# Altium footprint library PcbLib1.PcbLib: 21 footprints (part 1 of 2)
Each footprint in its own frame and in the unit in brackets; x right, y up, seen from the top. Pads: shape width x height; smd on the part's side, far side on the other; paste and mask are expansions set on the pad; w line width, h text height; cw(c..) or ccw(c..) is an arc to the next point about the centre after c.
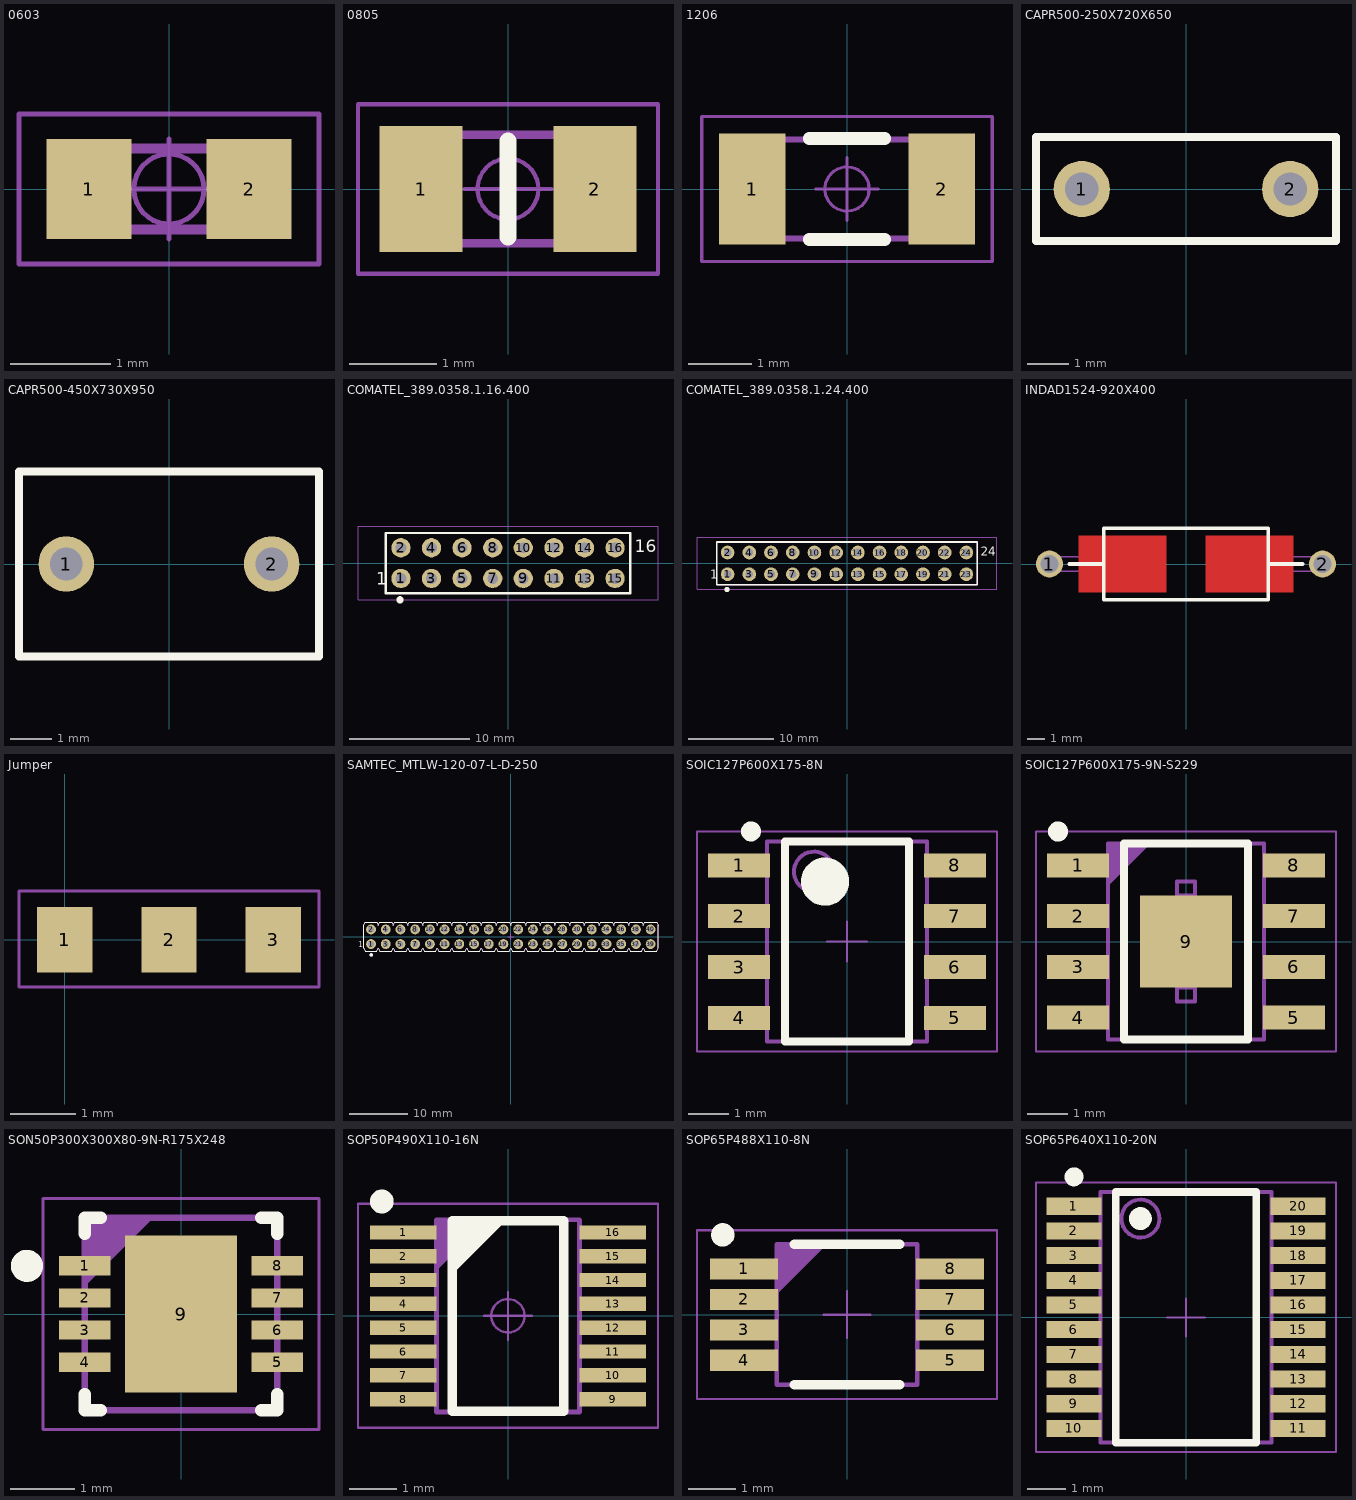
[diagram p0: the footprints below, top view; thin cyan lines are the x and y axes]

## 0603 [mm] "Chip Resistor, EIA 0603, Metric 1608, Body 1.6x0.8mm, IPC Medium Density"
height 0.6
pads (2):
  rect 0.85x1 smd: 1(-0.8,0) 2(0.8,0)
Mechanical 14:
  lines w0.1: -0.8,-0.405 0.8,-0.405 0.8,0.405 -0.8,0.405 -0.8,-0.405
Mechanical 15:
  circle w0.05: c0,0 r0.35
  lines w0.05: -0.5,0 0.5,0 ; 0,-0.5 0,0.5 ; -1.5,-0.75 1.5,-0.75 1.5,0.75 -1.5,0.75 -1.5,-0.75
3D body "RESC1608X60N.stp": height 0.6, standoff 0, extent -0.875,-0.475 0.875,0.475

## 0805 [mm] "Chip Resistor, EIA 0805, Metric 2012, Body 2.0x1.25mm, IPC Medium Density"
height 0.5
pads (2):
  rect 0.95x1.45 smd: 1(-1,0) 2(1,0)
Top Overlay:
  lines w0.2: 0,-0.55 0,0.55
Mechanical 14:
  lines w0.1: -1.025,-0.625 1.025,-0.625 1.025,0.625 -1.025,0.625 -1.025,-0.625
Mechanical 15:
  circle w0.05: c0,0 r0.35
  lines w0.05: -0.5,0 0.5,0 ; 0,-0.5 0,0.5 ; -1.725,-0.975 1.725,-0.975 1.725,0.975 -1.725,0.975 -1.725,-0.975
3D body "RESC2012X50N.stp": height 0.5, standoff 0, extent -1.1,-0.675 1.1,0.675

## 1206 [mm] "Chip Resistor, EIA 1206, Metric 3216, Body 3.2x1.6mm, IPC Medium Density"
height 0.5
pads (2):
  rect 1.05x1.75 smd: 1(-1.5,0) 2(1.5,0)
Top Overlay:
  lines w0.2: -0.6,-0.8 0.6,-0.8 ; -0.6,0.8 0.6,0.8
Mechanical 14:
  lines w0.1: -1.6,-0.785 -1.6,0.785 1.6,0.785 1.6,-0.785 -1.6,-0.785
Mechanical 15:
  circle w0.05: c0,0 r0.35
  lines w0.05: -0.5,0 0.5,0 ; 0,-0.5 0,0.5 ; -2.3,-1.15 -2.3,1.15 2.3,1.15 2.3,-1.15 -2.3,-1.15
3D body "RESC3216X50N.stp": height 0.51, standoff 0, extent -1.675,-0.875 1.675,0.875

## CAPR500-250X720X650 [mm] "Capacitor Radial, Pin spacing 5.0mm - Body With 2.5mm X Body Length 7.2mm X Body Height 6.5mm"
height 6.5
pads (2):
  round 1.35 hole 0.8: 1(-2.5,0) 2(2.5,0)
Top Overlay:
  lines w0.2: -3.6,-1.25 -3.6,1.25 3.6,1.25 3.6,-1.25 -3.6,-1.25
Mechanical 13:
  lines w0.1: -3.6,-1.25 3.6,-1.25 3.6,1.25 -3.6,1.25 -3.6,-1.25
Mechanical 14:
  lines w0.1: -3.6,-1.25 -3.6,1.25 3.6,1.25 3.6,-1.25 -3.6,-1.25
3D body "CAPR500-250X720X650.stp": height 6.5, standoff -3.8, extent -3.599,-1.249 3.601,1.251

## CAPR500-450X730X950 [mm] "Capacitor Radial, Pin spacing 5.0mm - Body With 4.5mm X Body Length 7.3mm X Body Height 9.5mm"
height 9.5
pads (2):
  round 1.35 hole 0.8: 1(-2.5,0) 2(2.5,0)
Top Overlay:
  lines w0.2: -3.65,-2.25 -3.65,2.25 3.65,2.25 3.65,-2.25 ; -3.6,-2.25 3.6,-2.25
Mechanical 13:
  lines w0.1: -3.65,-2.25 3.65,-2.25 3.65,2.25 -3.65,2.25 -3.65,-2.25
Mechanical 14:
  lines w0.1: -3.65,-2.25 -3.65,2.25 3.65,2.25 3.65,-2.25 -3.65,-2.25
3D body "CAPR500-450X730X950.stp": height 9.5, standoff -3.8, extent -3.649,-2.249 3.651,2.251

## COMATEL_389.0358.1.16.400 [mm] "16 Contacts - Pitch 2.54mm - Dual Row Straight Strip Header - Insulator 1.7mm"
height 8
pads (16):
  round 1.6 hole 0.9: 1(-8.89,-1.27) 2(-8.89,1.27) 3(-6.35,-1.27) 4(-6.35,1.27) 5(-3.81,-1.27) 6(-3.81,1.27) 7(-1.27,-1.27) 8(-1.27,1.27) 9(1.27,-1.27) 10(1.27,1.27) 11(3.81,-1.27) 12(3.81,1.27) 13(6.35,-1.27) 14(6.35,1.27) 15(8.89,-1.27) 16(8.89,1.27)
Top Overlay:
  circle w0.3: c-8.963,-3.048 r0.15
  lines w0.2: -10.16,-2.5 10.16,-2.5 10.16,2.5 -10.16,2.5 -10.16,-2.5
  text "1" at -10.922,-1.778 h1.02
  text "16" at 10.541,0.889 h1.02
Mechanical 8:
  lines w0.1: -12.45,-3.05 12.45,-3.05 12.45,3.05 -12.45,3.05 -12.45,-3.05
Mechanical 14:
  lines w0.1: -10.16,-2.5 10.16,-2.5 10.16,2.5 -10.16,2.5 -10.16,-2.5
3D body "COMATEL_389.0358.1.16.400.stp": height 8, standoff -3.2, extent -10.16,-3 10.16,2.5

## COMATEL_389.0358.1.24.400 [mm] "24 Contacts - Pitch 2.54mm - Dual Row Straight Strip Header - Insulator 1.7mm"
height 8
pads (24):
  round 1.6 hole 0.9: 1(-13.97,-1.27) 2(-13.97,1.27) 3(-11.43,-1.27) 4(-11.43,1.27) 5(-8.89,-1.27) 6(-8.89,1.27) 7(-6.35,-1.27) 8(-6.35,1.27) 9(-3.81,-1.27) 10(-3.81,1.27) 11(-1.27,-1.27) 12(-1.27,1.27) 13(1.27,-1.27) 14(1.27,1.27) 15(3.81,-1.27) 16(3.81,1.27) 17(6.35,-1.27) 18(6.35,1.27) 19(8.89,-1.27) 20(8.89,1.27) 21(11.43,-1.27) 22(11.43,1.27) 23(13.97,-1.27) 24(13.97,1.27)
Top Overlay:
  circle w0.3: c-14.043,-3.048 r0.15
  lines w0.2: -15.24,-2.5 -15.24,2.5 15.24,2.5 15.24,-2.5 -15.24,-2.5
  text "1" at -16.002,-1.778 h1.02
  text "24" at 15.621,0.889 h1.02
Mechanical 8:
  lines w0.1: -17.55,-3.05 -17.55,3.05 17.55,3.05 17.55,-3.05 -17.55,-3.05
Mechanical 14:
  lines w0.1: -15.24,-2.5 -15.24,2.5 15.24,2.5 15.24,-2.5 -15.24,-2.5
3D body "COMATEL_389.0358.1.24.400.stp": height 8, standoff -3.2, extent -15.24,-3 15.24,2.5

## INDAD1524-920X400 [mm] "Inductor, Axial Diameter, Pad spacing 15.24 mm - Body Lengh 9.2mm X Body Diameter 4mm"
height 4
pads (2):
  round 1.5 hole 1: 1(-7.62,0) 2(7.62,0)
Top Layer:
  region: -1.1,1.6 -6,1.6 -6,-1.6 -1.1,-1.6
  rectangle: 1.1,-1.6 6,1.6
Top Overlay:
  lines w0.2: -6.5,0 -4.6,0 ; 4.6,0 6.5,0 ; -4.6,-2 4.6,-2 4.6,2 -4.6,2 -4.6,-2
Mechanical 14:
  lines w0.1: -7.62,-0.4 -4.6,-0.4 -4.6,0.4 -7.62,0.4 -7.62,-0.4 ; -4.6,-2 4.6,-2 4.6,2 -4.6,2 -4.6,-2 ; 4.6,-0.4 4.6,0.4 7.62,0.4 7.62,-0.4 4.6,-0.4
3D body "INDAD1524-920X400.stp": height 4, standoff -3.6, extent -8.02,-2 8.02,2

## Jumper [mm] "Jumper, SMD"
height 0.5
pads (3):
  rect 0.85x1 smd: 1(0,0) 2(1.6,0) 3(3.2,0)
Mechanical 15:
  lines w0.05: -0.7,-0.725 -0.7,0.75 3.9,0.75 3.9,-0.725 -0.7,-0.725

## SAMTEC_MTLW-120-07-L-D-250 [mm] "40 Contacts - Pitch 2.54mm - Dual Row Through Mount Straight Header (Post Lead = 6.35mm, Tail Lead 3.05mm, Insulator 1.52mm)"
height 7.87
pads (40):
  round 1.7 hole 1: 1(-24.13,-1.27) 2(-24.13,1.27) 3(-21.59,-1.27) 4(-21.59,1.27) 5(-19.05,-1.27) 6(-19.05,1.27) 7(-16.51,-1.27) 8(-16.51,1.27) 9(-13.97,-1.27) 10(-13.97,1.27) 11(-11.43,-1.27) 12(-11.43,1.27) 13(-8.89,-1.27) 14(-8.89,1.27) 15(-6.35,-1.27) 16(-6.35,1.27) 17(-3.81,-1.27) 18(-3.81,1.27) 19(-1.27,-1.27) 20(-1.27,1.27) 21(1.27,-1.27) 22(1.27,1.27) 23(3.81,-1.27) 24(3.81,1.27) 25(6.35,-1.27) 26(6.35,1.27) 27(8.89,-1.27) 28(8.89,1.27) 29(11.43,-1.27) 30(11.43,1.27) 31(13.97,-1.27) 32(13.97,1.27) 33(16.51,-1.27) 34(16.51,1.27) 35(19.05,-1.27) 36(19.05,1.27) 37(21.59,-1.27) 38(21.59,1.27) 39(24.13,-1.27) 40(24.13,1.27)
Top Overlay:
  circle w0.3: c-24.095,-3.135 r0.15
  lines w0.2: -25.4,-2.007 -25.146,-2.515 -23.114,-2.515 -22.86,-2.007 -22.606,-2.515 -20.574,-2.515 -20.32,-2.007 -20.066,-2.515 -18.034,-2.515 -17.78,-2.007 -17.526,-2.515 -15.494,-2.515 -15.24,-2.007 -14.986,-2.515 -12.954,-2.515 -12.7,-2.007 -12.446,-2.515 -10.414,-2.515 -10.16,-2.007 -9.906,-2.515 -7.874,-2.515 -7.62,-2.007 -7.366,-2.515 -5.334,-2.515 -5.08,-2.007 -4.826,-2.515 -2.794,-2.515 -2.54,-2.007 -2.286,-2.515 -0.254,-2.515 0,-2.007 0.254,-2.515 2.286,-2.515 2.54,-2.007 2.794,-2.515 4.826,-2.515 5.08,-2.007 5.334,-2.515 7.366,-2.515 7.62,-2.007 7.874,-2.515 9.906,-2.515 10.16,-2.007 10.414,-2.515 12.446,-2.515 12.7,-2.007 12.954,-2.515 14.986,-2.515 15.24,-2.007 15.494,-2.515 17.526,-2.515 17.78,-2.007 18.034,-2.515 20.066,-2.515 20.32,-2.007 20.574,-2.515 22.606,-2.515 22.86,-2.007 23.114,-2.515 25.146,-2.515 25.4,-2.007 25.4,2.007 25.146,2.515 23.114,2.515 22.86,2.007 22.606,2.515 20.574,2.515 20.32,2.007 20.066,2.515 18.034,2.515 17.78,2.007 17.526,2.515 15.494,2.515 15.24,2.007 14.986,2.515 12.954,2.515 12.7,2.007 12.446,2.515 10.414,2.515 10.16,2.007 9.906,2.515 7.874,2.515 7.62,2.007 7.366,2.515 5.334,2.515 5.08,2.007 4.826,2.515 2.794,2.515 2.54,2.007 2.286,2.515 0.254,2.515 0,2.007 -0.254,2.515 -2.286,2.515 -2.54,2.007 -2.794,2.515 -4.826,2.515 -5.08,2.007 -5.334,2.515 -7.366,2.515 -7.62,2.007 -7.874,2.515 -9.906,2.515 -10.16,2.007 -10.414,2.515 -12.446,2.515 -12.7,2.007 -12.954,2.515 -14.986,2.515 -15.24,2.007 -15.494,2.515 -17.526,2.515 -17.78,2.007 -18.034,2.515 -20.066,2.515 -20.32,2.007 -20.574,2.515 -22.606,2.515 -22.86,2.007 -23.114,2.515 -25.146,2.515 -25.4,2.007 -25.4,-2.007
  text "1" at -26.377,-1.768 h1
Mechanical 8:
  drawing of 164 lines, arcs and shapes, not listed
Mechanical 14:
  drawing of 283 lines, arcs and shapes, not listed
  text "1" at -26.377,-1.768 h1
3D body "SAMTEC_MTLW-120-07-L-D-250.stp": height 7.87, standoff -3.05, extent -25.4,-2.514 25.4,2.515

## SOIC127P600X175-8N [mm] "SOIC 8, Pitch 1.27mm - Body 4x5mm, IPC Medium Density"
height 1.75
pads (8):
  rect 1.55x0.6 smd: 1(-2.7,1.905) 2(-2.7,0.635) 3(-2.7,-0.635) 4(-2.7,-1.905) 5(2.7,-1.905) 6(2.7,-0.635) 7(2.7,0.635) 8(2.7,1.905)
Top Overlay:
  circle w0.25: c-2.4,2.755 r0.125
  circle w0.6: c-0.55,1.5 r0.3
  lines w0.2: -1.55,-2.5 -1.55,2.5 1.55,2.5 1.55,-2.5 -1.55,-2.5
Mechanical 14:
  circle w0.1: c-0.825,1.75 r0.5
  lines w0.1: -2,-2.5 -2,2.5 2,2.5 2,-2.5 -2,-2.5
Mechanical 15:
  lines w0.05: -0.5,0 0.5,0 ; 0,-0.5 0,0.5 ; -3.75,-2.75 -3.75,2.75 3.75,2.75 3.75,-2.75 -3.75,-2.75
3D body "SOIC127P600X175-8N.stp": height 1.75, standoff 0, extent -3.1,-2.5 3.1,2.5

## SOIC127P600X175-9N-S229 [mm] "SOIC 8, 1.27mm Pitch; 8 pin, 3.90mm W X 4.90mm L X 1.75mm H body, (w/thermal tab 2.29mm X 2.29mm), IPC Medium Density"
height 1.75
pads (9):
  rect 1.55x0.6 smd: 1(-2.7,1.905) 2(-2.7,0.635) 3(-2.7,-0.635) 4(-2.7,-1.905) 5(2.7,-1.905) 6(2.7,-0.635) 7(2.7,0.635) 8(2.7,1.905)
  rect 2.29x2.29 smd: 9(0,0)
Top Overlay:
  circle w0.25: c-3.2,2.75 r0.125
  lines w0.2: -1.55,-2.45 1.55,-2.45 1.55,2.45 -1.55,2.45 -1.55,-2.45
Mechanical 8:
  lines w0.1: -0.229,-1.5 0.229,-1.5 0.229,-1.144 -0.229,-1.144 -0.229,-1.5 ; -0.229,1.144 0.229,1.144 0.229,1.5 -0.229,1.5 -0.229,1.144
Mechanical 14:
  lines w0.1: -1.95,1.45 -0.95,2.45 ; -1.95,1.55 -1.05,2.45 ; -1.95,1.65 -1.15,2.45 ; -1.95,1.75 -1.25,2.45 ; -1.95,1.85 -1.35,2.45 ; -1.95,1.95 -1.45,2.45 ; -1.95,2.05 -1.55,2.45 ; -1.95,2.15 -1.65,2.45 ; -1.95,2.25 -1.75,2.45 ; -1.95,2.35 -1.85,2.45 ; -1.95,-2.45 1.95,-2.45 1.95,2.45 -1.95,2.45 -1.95,-2.45
Mechanical 15:
  lines w0.05: -0.5,0 0.5,0 ; 0,-0.5 0,0.5 ; -3.75,-2.75 3.75,-2.75 3.75,2.75 -3.75,2.75 -3.75,-2.75
3D body "SOIC127P600X175-9N-S229.stp": height 1.75, standoff 0, extent -3.1,-2.5 3.1,2.5

## SON50P300X300X80-9N-R175X248 [mm] "SON, (DFN) 0.50mm,pitch; 8 pin,3.00mm W X 3.00mm L X 0.80mm H body (w/thermal tab 1.75 X2.48mm), IPC Medium Density"
height 0.8
pads (9):
  rect 0.8x0.3 smd: 1(-1.5,0.75) 2(-1.5,0.25) 3(-1.5,-0.25) 4(-1.5,-0.75) 5(1.5,-0.75) 6(1.5,-0.25) 7(1.5,0.25) 8(1.5,0.75)
  rect 1.75x2.45 smd: 9(0,0)
Top Overlay:
  circle w0.25: c-2.4,0.75 r0.125
  lines w0.2: -1.5,-1.25 -1.5,-1.5 -1.25,-1.5 ; -1.5,1.25 -1.5,1.5 -1.25,1.5 ; 1.25,-1.5 1.5,-1.5 1.5,-1.25 ; 1.25,1.5 1.5,1.5 1.5,1.25
Mechanical 14:
  lines w0.1: -1.5,0.5 -0.5,1.5 ; -1.5,0.6 -0.6,1.5 ; -1.5,0.7 -0.7,1.5 ; -1.5,0.8 -0.8,1.5 ; -1.5,0.9 -0.9,1.5 ; -1.5,1 -1,1.5 ; -1.5,1.1 -1.1,1.5 ; -1.5,1.2 -1.2,1.5 ; -1.5,1.3 -1.3,1.5 ; -1.5,1.4 -1.4,1.5 ; -1.5,-1.5 1.5,-1.5 1.5,1.5 -1.5,1.5 -1.5,-1.5
Mechanical 15:
  lines w0.05: -0.5,0 0.5,0 ; 0,-0.5 0,0.5 ; -2.15,-1.8 -2.15,1.8 2.15,1.8 2.15,-1.8 -2.15,-1.8
3D body "SON50P300X300X80-9N-R175X248.stp": height 0.8, standoff 0, extent -1.55,-1.55 1.55,1.55

## SOP50P490X110-16N [mm] "SOP, 0.50mm Pitch; 16 Pin, 3.00mm W X 4.039mm L X 1.10mm H Body, IPC Medium Density"
height 1.1
pads (16):
  rect 1.4x0.3 smd: 1(-2.2,1.75) 2(-2.2,1.25) 3(-2.2,0.75) 4(-2.2,0.25) 5(-2.2,-0.25) 6(-2.2,-0.75) 7(-2.2,-1.25) 8(-2.2,-1.75) 9(2.2,-1.75) 10(2.2,-1.25) 11(2.2,-0.75) 12(2.2,-0.25) 13(2.2,0.25) 14(2.2,0.75) 15(2.2,1.25) 16(2.2,1.75)
Top Overlay:
  circle w0.25: c-2.65,2.4 r0.125
  lines w0.2: -1.175,1 -0.175,2 ; -1.175,1.2 -0.375,2 ; -1.175,1.4 -0.575,2 ; -1.175,1.6 -0.775,2 ; -1.175,1.8 -0.975,2 ; -1.175,-2 -1.175,2 1.175,2 1.175,-2 -1.175,-2
Mechanical 14:
  lines w0.1: -1.5,1.019 -0.5,2.019 ; -1.5,1.12 -0.6,2.019 ; -1.5,1.219 -0.7,2.019 ; -1.5,1.32 -0.8,2.019 ; -1.5,1.419 -0.9,2.019 ; -1.5,1.519 -1,2.019 ; -1.5,1.62 -1.1,2.019 ; -1.5,1.719 -1.2,2.019 ; -1.5,1.82 -1.3,2.019 ; -1.5,1.919 -1.4,2.019 ; -1.5,-2.019 -1.5,2.019 1.5,2.019 1.5,-2.019 -1.5,-2.019
Mechanical 15:
  circle w0.05: c0,0 r0.35
  lines w0.05: -0.5,0 0.5,0 ; 0,-0.5 0,0.5 ; -3.15,-2.35 -3.15,2.35 3.15,2.35 3.15,-2.35 -3.15,-2.35
3D body "SOP50P490X110-16N.stp": height 1.1, standoff 0, extent -2.466,-2.07 2.466,2.07

## SOP65P488X110-8N [mm] "SOP, 8-Leads, Body 3x3mm (max), Pitch 0.65mm, IPC Medium Density"
height 1.1
pads (8):
  rect 1.45x0.45 smd: 1(-2.2,0.975) 2(-2.2,0.325) 3(-2.2,-0.325) 4(-2.2,-0.975) 5(2.2,-0.975) 6(2.2,-0.325) 7(2.2,0.325) 8(2.2,0.975)
Top Overlay:
  circle w0.25: c-2.65,1.7 r0.125
  lines w0.2: -1.125,-1.5 1.125,-1.5 ; -1.125,1.5 1.125,1.5
Mechanical 14:
  lines w0.1: -1.5,0.5 -0.5,1.5 ; -1.5,0.6 -0.6,1.5 ; -1.5,0.7 -0.7,1.5 ; -1.5,0.8 -0.8,1.5 ; -1.5,0.9 -0.9,1.5 ; -1.5,1 -1,1.5 ; -1.5,1.1 -1.1,1.5 ; -1.5,1.2 -1.2,1.5 ; -1.5,1.3 -1.3,1.5 ; -1.5,1.4 -1.4,1.5 ; -1.5,-1.5 1.5,-1.5 1.5,1.5 -1.5,1.5 -1.5,-1.5
Mechanical 15:
  lines w0.05: -0.5,0 0.5,0 ; 0,-0.5 0,0.5 ; -3.2,-1.8 -3.2,1.8 3.2,1.8 3.2,-1.8 -3.2,-1.8
3D body "SOP65P488X110-8N.stp": height 1.1, standoff 0, extent -2.45,-1.55 2.45,1.55

## SOP65P640X110-20N [mm] "SOP, 20-Leads, Body 6.6x4.5mm (max), Pitch 0.65mm, IPC Medium Density"
height 1.1
pads (20):
  rect 1.45x0.45 smd: 1(-2.95,2.925) 2(-2.95,2.275) 3(-2.95,1.625) 4(-2.95,0.975) 5(-2.95,0.325) 6(-2.95,-0.325) 7(-2.95,-0.975) 8(-2.95,-1.625) 9(-2.95,-2.275) 10(-2.95,-2.925) 11(2.95,-2.925) 12(2.95,-2.275) 13(2.95,-1.625) 14(2.95,-0.975) 15(2.95,-0.325) 16(2.95,0.325) 17(2.95,0.975) 18(2.95,1.625) 19(2.95,2.275) 20(2.95,2.925)
Top Overlay:
  circle w0.3: c-1.2,2.6 r0.15
  circle w0.25: c-2.95,3.7 r0.125
  lines w0.2: -1.85,-3.3 -1.85,3.3 1.85,3.3 1.85,-3.3 -1.85,-3.3
Mechanical 14:
  circle w0.1: c-1.2,2.6 r0.5
  lines w0.1: -2.25,-3.3 -2.25,3.3 2.25,3.3 2.25,-3.3 -2.25,-3.3
Mechanical 15:
  lines w0.05: -0.5,0 0.5,0 ; 0,-0.5 0,0.5 ; -3.95,-3.55 -3.95,3.55 3.95,3.55 3.95,-3.55 -3.95,-3.55
3D body "SOP65P640X110-20N.stp": height 1.19, standoff 0, extent -3.121,-3.3 3.121,3.3